# Altium schematic symbol library Components - 08.08.24 - 17.SchLib: 1 symbol
Pins are listed as number, name and electrical type; pins without a type are passive.

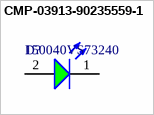
[diagram p0: symbol CMP-03913-90235559-1]

## CMP-03913-90235559-1
designator D?, comment 150040VS73240
150040VS73240 WL-SMCC SMT Mono-Color Chip LED Compact; NexarPartId: 90235559; Color: Green; Viewing Angle: 120°; Forward Current: 60mA; Max Junction Temperature (Tj): 95°C; Reverse Voltage: 5V; Power Dissipation: 75mW; Wavelength: 570nm; Forward Voltage: 2V; Luminous Intensity: 50mcd; Peak Wavelength: 572nm; RoHS: Compliant; Height: 400µm; Width: 500µm; Case/Package: 0402; Min Operating Temperature: -40°C; Packaging: Tape and Reel; Length: 1mm; Dominant Wavelength: 570nm; Max Reverse Voltage (DC): 5V; Max Operating Temperature: 85°C
footprint WL-SMCC_0402_L1W0.5H0.4 (SMD Mono-color Chip LED Compact, body 1x0.5mm)
pins: 1 K, 2 A